# Altium footprint library 整流桥.PcbLib: 7 footprints
Each footprint in its own frame and in the unit in brackets; x right, y up, seen from the top. Pads: shape width x height; smd on the part's side, far side on the other; paste and mask are expansions set on the pad; w line width, h text height; cw(c..) or ccw(c..) is an arc to the next point about the centre after c.
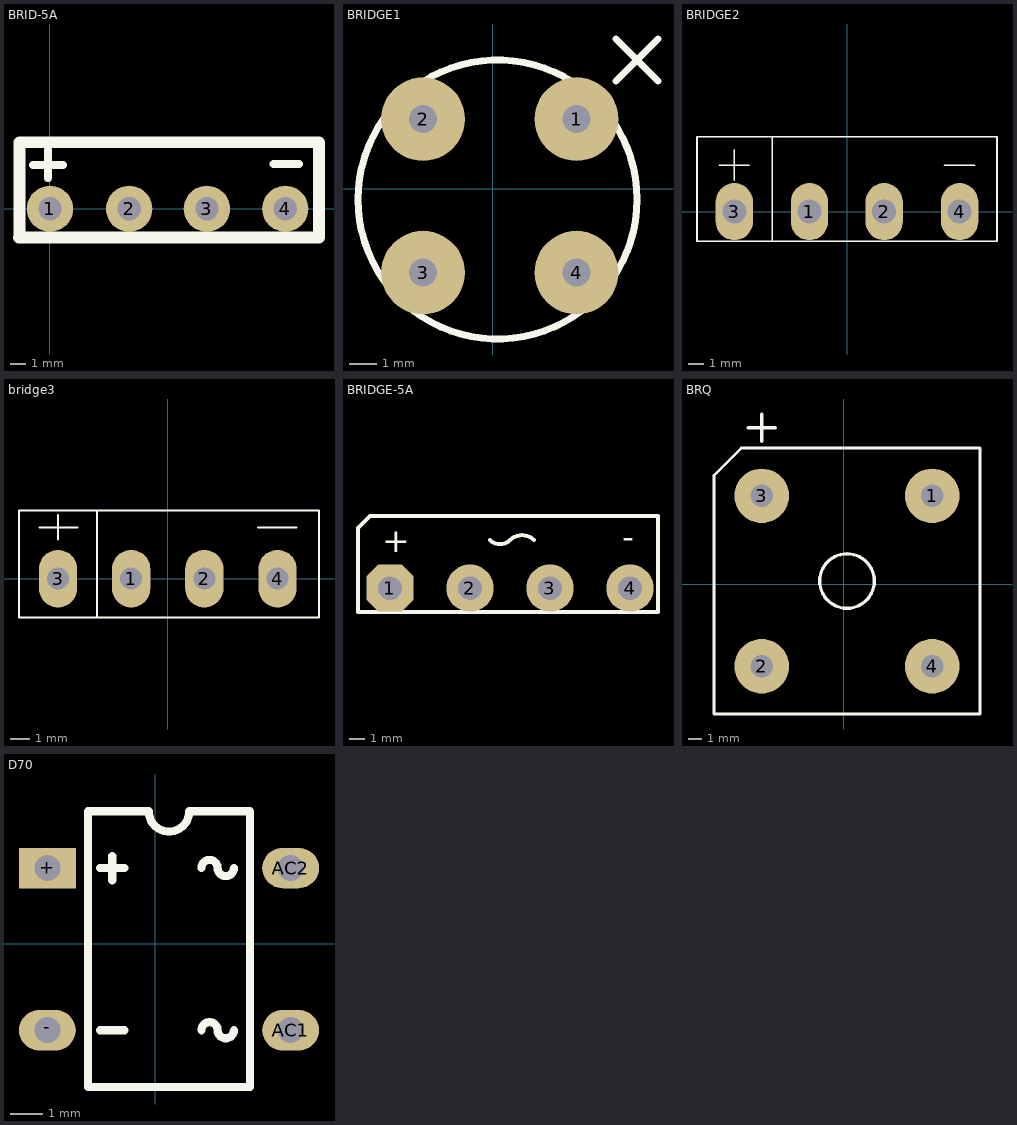
[diagram p0: the footprints below, top view; thin cyan lines are the x and y axes]

## BRID-5A [mm]
pads (4):
  round 3 hole 1.5: 1(0,0) 2(5.131,0) 3(10.16,0) 4(15.24,0)
Top Overlay:
  lines w0.508: -1.092,2.845 0.838,2.845 ; -0.127,1.981 -0.127,3.81 ; 0.127,4.42 0.381,4.42 ; 14.478,2.896 16.129,2.896
  lines w0.762: -2.007,-1.854 -1.981,-1.854 -1.981,4.318 17.399,4.318 17.424,4.293 17.424,-1.854 -2.007,-1.854

## BRIDGE1 [mil]
pads (4):
  round 120 hole 40: 1(120,100) 2(-100,100) 3(-100,-120) 4(120,-120)
Top Overlay:
  circle w10: c6.8,-15.2 r200
  lines w10: 176.8,154.8 236.8,214.8 ; 176.8,214.8 236.8,154.8

## BRIDGE2 [mil]
pads (4):
  oval 98x150 hole 63: 1(-98.5,0) 2(97.5,0) 3(-295.5,0) 4(295.5,0)
Top Overlay:
  lines w4: -334.5,122 -256.5,122 ; -295.5,83 -295.5,162 ; -196.5,-78 -196.5,197 ; 255.5,122 334.5,122 ; -393.5,-78 393.5,-78 393.5,197 -393.5,197 -393.5,-78

## bridge3 [mm]
pads (4):
  oval 2x3 hole 1.143: 1(-1.905,0) 2(1.905,0) 3(-5.715,0) 4(5.715,0)
Top Overlay:
  lines w0.102: -6.68,2.667 -4.699,2.667 ; -5.715,2.032 -5.715,3.302 ; -3.683,-2.032 -3.683,3.556 ; 4.699,2.667 6.706,2.667 ; -7.747,-2.032 7.874,-2.032 7.874,3.556 -7.747,3.556 -7.747,-2.032

## BRIDGE-5A [mm]
pads (4):
  oct 3x3 hole 1.5: 1(-26.416,187.198)
  round 3 hole 1.5: 2(-21.336,187.198) 3(-16.256,187.198) 4(-11.176,187.198)
Top Overlay:
  lines w0.254: -20.066,190.246 ccw(c-19.431,190.881) -18.796,190.246 cw(c-18.034,189.484) -17.272,190.246 ; -28.448,185.674 -28.448,189.992 -28.448,191.008 -27.686,191.77 -26.67,191.77 -9.398,191.77 -9.398,185.674 -28.448,185.674
  text "-" at -11.684,189.738 h1.52
  text "+" at -26.924,189.484 h1.52

## BRQ [mil]
pads (4):
  round 160 hole 65: 1(260,260) 2(-240,-240) 3(-240,260) 4(260,-240)
Top Overlay:
  circle w10: c10.04,10.04 r80
  lines w8: -380,-380 400,-380 400,400 -300,400 -380,320 -380,-380
  lines w10: -280,460 -200,460 ; -240,420 -240,500

## D70 [mil]
pads (4):
  rect 70x50 hole 32: +(-133.07,93.07)
  oval 70x50 hole 32: -(-133.07,-106.93) AC1(166.93,-106.93) AC2(166.93,93.07)
Top Overlay:
  lines w10: -68.07,-106.93 -38.07,-106.93 ; -68.07,93.07 -38.07,93.07 ; -53.07,78.07 -53.07,108.07 ; 56.93,-106.93 cw(c66.93,-106.93) 76.93,-106.93 ccw(c86.93,-106.93) 96.93,-106.93 ; 56.93,93.07 cw(c66.93,93.07) 76.93,93.07 ccw(c86.93,93.07) 96.93,93.07 ; -83.07,-176.93 -83.07,163.07 -8.07,163.07 ccw(c16.93,163.07) 41.93,163.07 116.93,163.07 116.93,-176.93 -83.07,-176.93